# Altium integrated library BM06B-GHS-TBT_LF__SN__N_.IntLib: 1 symbol
Pins are listed as number, name and electrical type; pins without a type are passive.

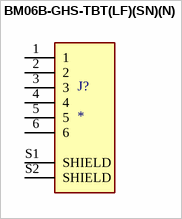
[diagram p0: symbol BM06B-GHS-TBT(LF)(SN)(N)]

## BM06B-GHS-TBT(LF)(SN)(N)
designator J?
Connector Header Surface Mount 6 position 0.049 (1.25mm); MF: JST Sales; MP: BM06B-GHS-TBT(LF)(SN)(N); SnapEDA_Link: https://www.snapeda.com/parts/BM06B-GHS-TBT(LF)(SN)(N)/JST/view-part/?ref=snap; Package: None; Value: *; Check_prices: https://www.snapeda.com/parts/BM06B-GHS-TBT(LF)(SN)(N)/JST/view-part/?ref=eda
footprint JST_BM06B-GHS-TBT(LF)(SN)(N)
pins: 1, 2, 3, 4, 5, 6, S1 SHIELD, S2 SHIELD